# Altium schematic symbol library 2-1445054-8.SchLib: 1 symbol
Pins are listed as number, name and electrical type; pins without a type are passive.

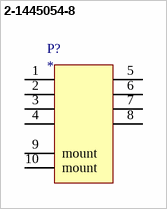
[diagram p0: symbol 2-1445054-8]

## 2-1445054-8
designator P?
pins: 1 (power), 2 (power), 3 (power), 4 (power), 5 (power), 6 (power), 7 (power), 8 (power), 9 mount (power), 10 mount (power)